# EAGLE library part *M22D (library apple-mini)
Sullins 44 Contact Female Card Edge Connector .156” [3.96 mm] Contact Centers, .431” [10.95 mm] Insulator Height, Dip Solder/Eyelet/Right Angle Source: http://www.sullinscorp.com/catalogs/65_PAGE70-71_.156_LP_DS_EYE_RA.pdf
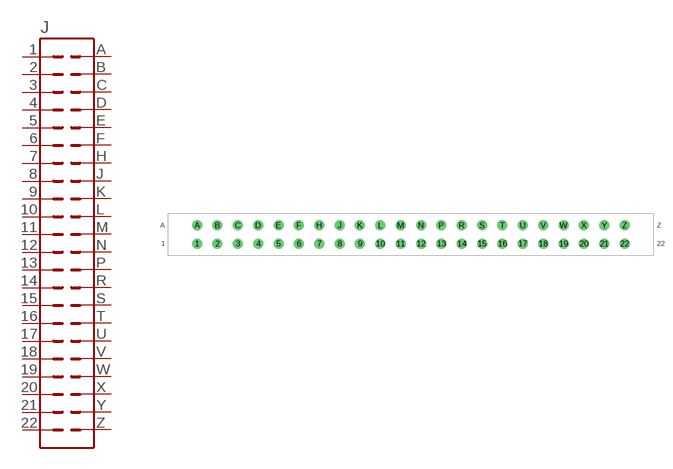
[diagram p3: symbol with the pads of M22DRTN; footprint M22DRTN]

Designator prefix J

## RBM22DRTN (MFR: Sullins; MFR_PARTNO: RBM22DRTN)  [M22DRTN]
1  1  pas
2  2  pas
3  3  pas
4  4  pas
5  5  pas
6  6  pas
7  7  pas
8  8  pas
9  9  pas
10  10  pas
11  11  pas
12  12  pas
13  13  pas
14  14  pas
15  15  pas
16  16  pas
17  17  pas
18  18  pas
19  19  pas
20  20  pas
21  21  pas
22  22  pas
A  A  pas
B  B  pas
C  C  pas
D  D  pas
E  E  pas
F  F  pas
H  H  pas
J  J  pas
K  K  pas
L  L  pas
M  M  pas
N  N  pas
P  P  pas
R  R  pas
S  S  pas
T  T  pas
U  U  pas
V  V  pas
W  W  pas
X  X  pas
Y  Y  pas
Z  Z  pas

## Footprint M22DRTN (pad centres in mm)
Card Edge Connector
drill 1.3: 1 -41.605,-1.778; 2 -37.643,-1.778; 3 -33.68,-1.778; 4 -29.718,-1.778; 5 -25.756,-1.778; 6 -21.793,-1.778; 7 -17.831,-1.778; 8 -13.868,-1.778; 9 -9.906,-1.778; 10 -5.944,-1.778; 11 -1.981,-1.778; 12 1.981,-1.778; 13 5.944,-1.778; 14 9.906,-1.778; 15 13.868,-1.778; 16 17.831,-1.778; 17 21.793,-1.778; 18 25.756,-1.778; 19 29.718,-1.778; 20 33.68,-1.778; 21 37.643,-1.778; 22 41.605,-1.778; A -41.605,1.778; B -37.643,1.778; C -33.68,1.778; D -29.718,1.778; E -25.756,1.778; F -21.793,1.778; H -17.831,1.778; J -13.868,1.778; K -9.906,1.778; L -5.944,1.778; M -1.981,1.778; N 1.981,1.778; P 5.944,1.778; R 9.906,1.778; S 13.868,1.778; T 17.831,1.778; U 21.793,1.778; V 25.756,1.778; W 29.718,1.778; X 33.68,1.778; Y 37.643,1.778; Z 41.605,1.778